# Altium integrated library LM2596S-3.3_NOPB.IntLib: 1 symbol
Pins are listed as number, name and electrical type; pins without a type are passive.

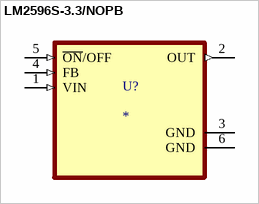
[diagram p0: symbol LM2596S-3.3/NOPB]

## LM2596S-3.3/NOPB
designator U?
SIMPLE SWITCHERÂ® 4.5V to 40V, 3A Low Component Count Step-Down Regulator 5-DDPAK/TO-263; MF: Texas Instruments; MP: LM2596S-3.3; SnapEDA_Link: https://www.snapeda.com/parts/LM2596S-3.3/Texas+Instruments/view-part/?ref=snap; Package: TO-263-5 Texas Instruments; Value: *; Check_prices: https://www.snapeda.com/parts/LM2596S-3.3/Texas+Instruments/view-part/?ref=eda
footprint VREG_LM2596S-3.3/NOPB
pins: 1 VIN (in), 2 OUT (out), 3 GND (power), 4 FB (in), 5 ~{ON}/OFF (in), 6 GND (power)